# Altium footprint library capacitor_smd.PcbLib: 120 footprints (part 2 of 8)
Each footprint in its own frame and in the unit in brackets; x right, y up, seen from the top. Pads: shape width x height; smd on the part's side, far side on the other; paste and mask are expansions set on the pad; w line width, h text height; cw(c..) or ccw(c..) is an arc to the next point about the centre after c.
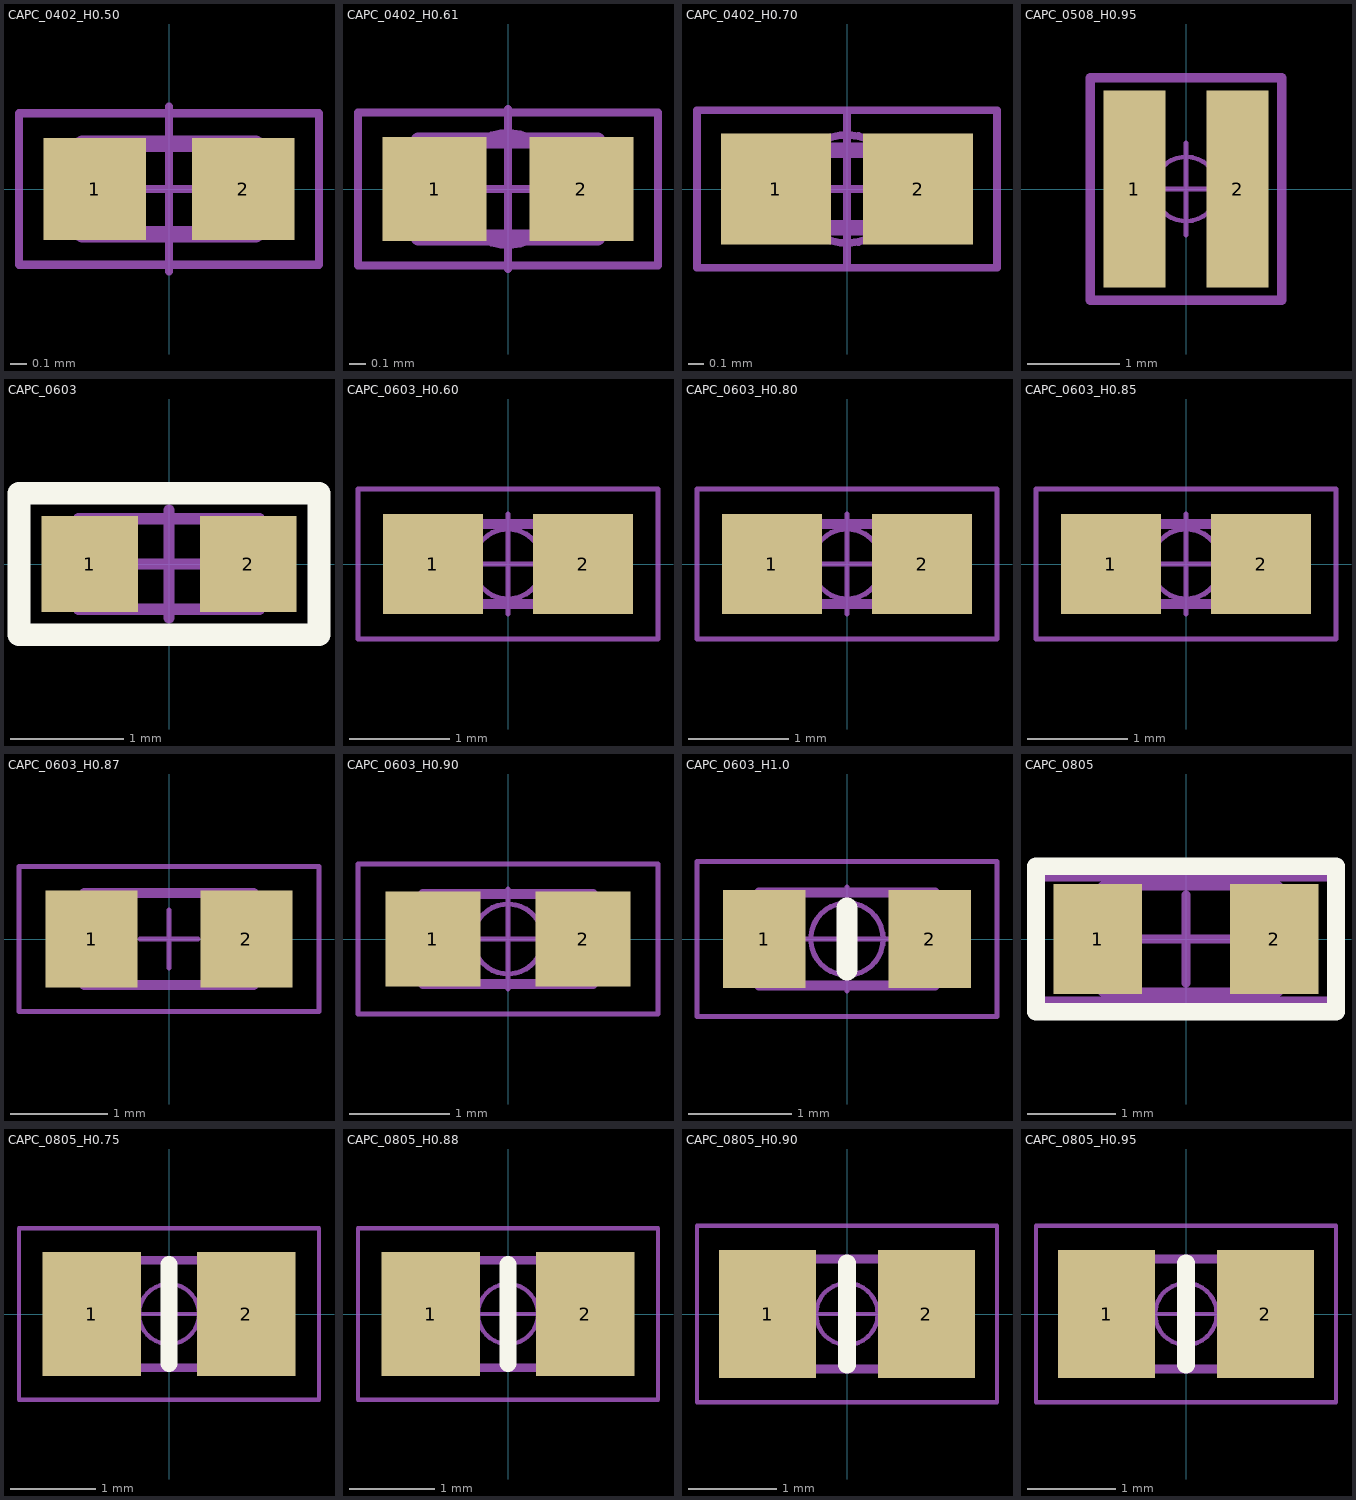
[diagram p1: the footprints below, top view; thin cyan lines are the x and y axes]

## CAPC_0402_H0.50 [mm] "Capacitor, Non-Polarized, Chip; 1.00mm L X 0.50mm W X 0.70mm H, IPC Medium Density"
height 0.55
pads (2):
  rect 0.62x0.62 smd: 1(-0.45,0) 2(0.45,0)
Mechanical 1:
  lines w0.1: -0.525,-0.275 0.525,-0.275 0.525,0.275 -0.525,0.275 -0.525,-0.275
Mechanical 15:
  lines w0.05: -0.5,0 0.5,0 ; 0,-0.5 0,0.5 ; -0.91,-0.46 0.91,-0.46 0.91,0.46 -0.91,0.46 -0.91,-0.46
3D body "CAPC1005X55N.stp": height 0.55, standoff 0, extent -0.525,-0.275 0.525,0.275

## CAPC_0402_H0.61 [mm] "Capacitor, Non-Polarized, Chip; 1.02mm L X 0.51mm W X 0.61mm H, IPC Medium Density"
height 0.61
pads (2):
  rect 0.65x0.65 smd: 1(-0.46,0) 2(0.46,0)
Mechanical 1:
  lines w0.1: -0.56,-0.305 -0.56,0.305 0.56,0.305 0.56,-0.305 -0.56,-0.305
Mechanical 15:
  circle w0.05: c0,0 r0.35
  lines w0.05: -0.5,0 0.5,0 ; 0,-0.5 0,0.5 ; -0.94,-0.48 0.94,-0.48 0.94,0.48 -0.94,0.48 -0.94,-0.48
3D body "CAPC1005X61N.stp": height 0.61, standoff 0, extent -0.56,-0.305 0.56,0.305

## CAPC_0402_H0.70 [mm] "Capacitor, Non-Polarized, Chip; 1.00mm L X 0.50mm W X 0.70mm H, IPC Medium Density"
height 0.7
pads (2):
  rect 0.71x0.72 smd: 1(-0.46,0) 2(0.46,0)
Mechanical 1:
  lines w0.1: -0.5,-0.25 0.5,-0.25 0.5,0.25 -0.5,0.25 -0.5,-0.25
Mechanical 15:
  circle w0.05: c0,0 r0.35
  lines w0.05: -0.5,0 0.5,0 ; 0,-0.5 0,0.5 ; -0.97,-0.51 0.97,-0.51 0.97,0.51 -0.97,0.51 -0.97,-0.51
3D body "CAPC1005X70N.stp": height 0.7, standoff 0, extent -0.6,-0.35 0.6,0.35

## CAPC_0508_H0.95 [mm] "Capacitor, Non-Polarized,Chip 0508 1220;1.25mm L X 2.00mm W X 0.95mm H, IPC Medium Density"
height 0.95
pads (2):
  rect 0.67x2.14 smd: 1(-0.56,0) 2(0.56,0)
Mechanical 1:
  lines w0.1: -1.04,-1.21 1.04,-1.21 1.04,1.21 -1.04,1.21 -1.04,-1.21
Mechanical 15:
  circle w0.05: c0,0 r0.35
  lines w0.05: -0.5,0 0.5,0 ; 0,-0.5 0,0.5 ; -1.05,-1.22 1.05,-1.22 1.05,1.22 -1.05,1.22 -1.05,-1.22
3D body "CAPC1320X95N.stp": height 0.9, standoff 0, extent -0.625,-1 0.625,1

## CAPC_0603 [mm]
height 0.45
pads (2):
  rect 0.85x0.85 smd: 1(-0.7,0) 2(0.7,0)
Top Overlay:
  lines w0.2: -1.325,-0.625 1.325,-0.625 1.325,0.625 -1.325,0.625 -1.325,-0.625
Mechanical 1:
  lines w0.1: -0.8,-0.4 0.8,-0.4 0.8,0.4 -0.8,0.4 -0.8,-0.4
Mechanical 15:
  lines w0.1: -0.475,0 0.475,0 ; 0,-0.475 0,0.475 ; -1.325,-0.625 -1.325,0.625 1.325,0.625 1.325,-0.625 -1.325,-0.625
3D body "SW3dPS-0603 SMD Capacitor.STEP": height 0.3, standoff 0, extent -0.8,-0.4 0.8,0.4

## CAPC_0603_H0.60 [mm] "Chip Capacitor, Body 1.6x0.8mm IPC Medium Density"
height 0.6
pads (2):
  rect 1x1 smd: 1(-0.75,0) 2(0.75,0)
Mechanical 1:
  lines w0.1: -0.8,-0.4 -0.8,0.4 0.8,0.4 0.8,-0.4 -0.8,-0.4
Mechanical 15:
  circle w0.05: c0,0 r0.35
  lines w0.05: -0.5,0 0.5,0 ; 0,-0.5 0,0.5 ; -1.5,-0.75 -1.5,0.75 1.5,0.75 1.5,-0.75 -1.5,-0.75
3D body "CAPC1608X60N.stp": height 0.6, standoff 0, extent -0.875,-0.475 0.875,0.475

## CAPC_0603_H0.80 [mm] "Chip Capacitor, Body 1.6x0.8mm IPC Medium Density"
height 0.8
pads (2):
  rect 1x1 smd: 1(-0.75,0) 2(0.75,0)
Mechanical 1:
  lines w0.1: -0.8,-0.4 0.8,-0.4 0.8,0.4 -0.8,0.4 -0.8,-0.4
Mechanical 15:
  circle w0.05: c0,0 r0.35
  lines w0.05: -0.5,0 0.5,0 ; 0,-0.5 0,0.5 ; -1.5,-0.75 1.5,-0.75 1.5,0.75 -1.5,0.75 -1.5,-0.75
3D body "CAPC1608X80N.stp": height 0.8, standoff 0, extent -0.875,-0.475 0.875,0.475

## CAPC_0603_H0.85 [mm] "Chip Capacitor, Body 1.6x0.8mm IPC Medium Density"
height 0.85
pads (2):
  rect 1x1 smd: 1(-0.75,0) 2(0.75,0)
Mechanical 1:
  lines w0.1: -0.8,-0.4 0.8,-0.4 0.8,0.4 -0.8,0.4 -0.8,-0.4
Mechanical 15:
  circle w0.05: c0,0 r0.35
  lines w0.05: -0.5,0 0.5,0 ; 0,-0.5 0,0.5 ; -1.5,-0.75 1.5,-0.75 1.5,0.75 -1.5,0.75 -1.5,-0.75
3D body "CAPC1608X85N.stp": height 0.85, standoff 0, extent -0.875,-0.475 0.875,0.475

## CAPC_0603_H0.87 [mm] "Chip Capacitor, Body 1.6x0.8mm IPC Medium Density"
height 0.87
pads (2):
  rect 0.95x1 smd: 1(-0.8,0) 2(0.8,0)
Mechanical 1:
  lines w0.1: -0.875,-0.475 0.875,-0.475 0.875,0.475 -0.875,0.475 -0.875,-0.475
Mechanical 15:
  lines w0.05: -0.3,0 0.3,0 ; 0,-0.3 0,0.3 ; -1.55,-0.75 -1.55,0.75 1.55,0.75 1.55,-0.75 -1.55,-0.75
3D body "CAPC1608X87N.stp": height 0.87, standoff 0, extent -0.875,-0.475 0.875,0.475

## CAPC_0603_H0.90 [mm] "Chip Capacitor, Body 1.6x0.8mm IPC Medium Density"
height 0.9
pads (2):
  rect 0.95x0.95 smd: 1(-0.75,0) 2(0.75,0)
Mechanical 1:
  lines w0.1: -0.85,-0.45 -0.85,0.45 0.85,0.45 0.85,-0.45 -0.85,-0.45
Mechanical 15:
  circle w0.05: c0,0 r0.35
  lines w0.05: -0.5,0 0.5,0 ; 0,-0.5 0,0.5 ; -1.5,-0.75 -1.5,0.75 1.5,0.75 1.5,-0.75 -1.5,-0.75
3D body "CAPC1608X90N.stp": height 0.9, standoff 0, extent -0.85,-0.45 0.85,0.45

## CAPC_0603_H1.0 [mm] "Capacitor, non-Polarized, Chip; 1.60mm L X 0.80mm W X 1.00mm H, IPC Medium Density"
height 1
pads (2):
  rect 0.8x0.95 smd: 1(-0.8,0) 2(0.8,0)
Top Overlay:
  lines w0.2: 0,-0.3 0,0.3
Mechanical 1:
  lines w0.1: -0.85,-0.45 0.85,-0.45 0.85,0.45 -0.85,0.45 -0.85,-0.45
Mechanical 15:
  circle w0.05: c0,0 r0.35
  lines w0.05: -0.5,0 0.5,0 ; 0,-0.5 0,0.5 ; -1.45,-0.75 1.45,-0.75 1.45,0.75 -1.45,0.75 -1.45,-0.75
3D body "CAPC1608X100N.stp": height 1, standoff 0, extent -0.85,-0.45 0.85,0.45

## CAPC_0805 [mm]
height 0.45
pads (2):
  rect 1x1.25 smd: 1(-1,0) 2(1,0)
Top Overlay:
  lines w0.2: -1.7,-0.825 -1.7,0.825 1.7,0.825 1.7,-0.825 -1.7,-0.825
Mechanical 1:
  lines w0.1: -0.949,-0.6 -0.949,0.6 1.05,0.6 1.05,-0.6 -0.949,-0.6
Mechanical 15:
  lines w0.1: -0.5,0 0.5,0 ; 0,-0.5 0,0.5 ; -1.7,-0.7 1.7,-0.7 1.7,0.7 -1.7,0.7 -1.7,-0.7
3D body "SW3dPS-0805 SMD Capacitor.STEP": height 0.78, standoff 0, extent -1,-0.625 1,0.625

## CAPC_0805_H0.75 [mm] "Chip Capacitor, Body 2.0x1.25mm, IPC Medium Density"
height 0.75
pads (2):
  rect 1.15x1.45 smd: 1(-0.9,0) 2(0.9,0)
Top Overlay:
  lines w0.2: 0,-0.575 0,0.575
Mechanical 1:
  lines w0.1: -1,-0.625 -1,0.625 1,0.625 1,-0.625 -1,-0.625
Mechanical 15:
  circle w0.05: c0,0 r0.35
  lines w0.05: -0.5,0 0.5,0 ; 0,-0.5 0,0.5 ; -1.75,-1 -1.75,1 1.75,1 1.75,-1 -1.75,-1
3D body "CAPC2012X75N.stp": height 0.75, standoff 0, extent -1.05,-0.675 1.05,0.675

## CAPC_0805_H0.88 [mm] "Chip Capacitor, Body 2.0x1.25mm, IPC Medium Density"
height 0.88
pads (2):
  rect 1.15x1.45 smd: 1(-0.9,0) 2(0.9,0)
Top Overlay:
  lines w0.2: 0,-0.575 0,0.575
Mechanical 1:
  lines w0.1: -1,-0.625 -1,0.625 1,0.625 1,-0.625 -1,-0.625
Mechanical 15:
  circle w0.05: c0,0 r0.35
  lines w0.05: -0.5,0 0.5,0 ; 0,-0.5 0,0.5 ; -1.75,-1 -1.75,1 1.75,1 1.75,-1 -1.75,-1
3D body "CAPC2012X88N.stp": height 0.9, standoff 0, extent -1.05,-0.675 1.05,0.675

## CAPC_0805_H0.90 [mm] "Chip Capacitor, Body 2.0x1.25mm, IPC Medium Density"
height 0.9
pads (2):
  rect 1.1x1.45 smd: 1(-0.9,0) 2(0.9,0)
Top Overlay:
  lines w0.2: 0,-0.575 0,0.575
Mechanical 1:
  lines w0.1: -1,-0.625 1,-0.625 1,0.625 -1,0.625 -1,-0.625
Mechanical 15:
  circle w0.05: c0,0 r0.35
  lines w0.05: -0.5,0 0.5,0 ; 0,-0.5 0,0.5 ; -1.7,-1 1.7,-1 1.7,1 -1.7,1 -1.7,-1
3D body "CAPC2012X90N.stp": height 0.9, standoff 0, extent -1.05,-0.675 1.05,0.675

## CAPC_0805_H0.95 [mm] "Chip Capacitor, Body 2.0x1.25mm, IPC Medium Density"
height 0.95
pads (2):
  rect 1.1x1.45 smd: 1(-0.9,0) 2(0.9,0)
Top Overlay:
  lines w0.2: 0,-0.575 0,0.575
Mechanical 1:
  lines w0.1: -1,-0.625 1,-0.625 1,0.625 -1,0.625 -1,-0.625
Mechanical 15:
  circle w0.05: c0,0 r0.35
  lines w0.05: -0.5,0 0.5,0 ; 0,-0.5 0,0.5 ; -1.7,-1 1.7,-1 1.7,1 -1.7,1 -1.7,-1
3D body "CAPC2012X95N.stp": height 0.95, standoff 0, extent -1.05,-0.675 1.05,0.675